# Altium schematic symbol library SN74LS00D.SchLib: 1 symbol
Pins are listed as number, name and electrical type; pins without a type are passive.

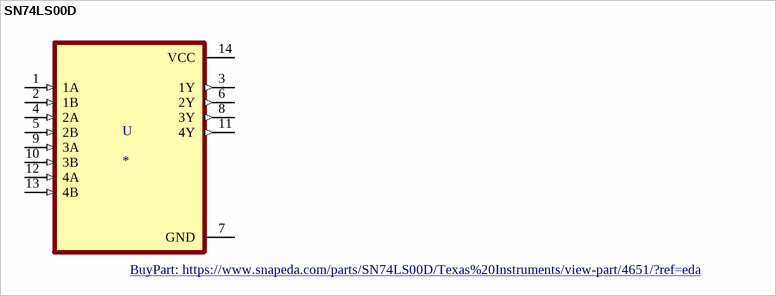
[diagram p0: symbol SN74LS00D]

## SN74LS00D
designator U
Quad 2-input positive-NAND gates 14-SOIC 0 to 70; MP: SN74LS00D; MF: Texas Instruments; Availability: Warning; DigiKey-Purchase-URL: https://snapeda.com/shop?store=DigiKey&id=4651; SnapEDA_Link: https://www.snapeda.com/parts/SN74LS00D/Texas%20Instruments/view-part/4651/?ref=snap; Value: *; Texas_Instruments-Purchase-URL: https://snapeda.com/shop?store=Texas+Instruments&id=4651; Package: SOIC-14 Texas Instruments; Price: None; Mouser-Purchase-URL: https://snapeda.com/shop?store=Mouser&id=4651; BuyPart: https://www.snapeda.com/parts/SN74LS00D/Texas%20Instruments/view-part/4651/?ref=eda
footprint SOIC127P600X175-14N
pins: 1 1A (in), 2 1B (in), 3 1Y (out), 4 2A (in), 5 2B (in), 6 2Y (out), 7 GND (power), 8 3Y (out), 9 3A (in), 10 3B (in), 11 4Y (out), 12 4A (in), 13 4B (in), 14 VCC (power)